# Altium footprint library L-SPE-XAL40xx.PcbLib: 1 footprints
Each footprint in its own frame and in the unit in brackets; x right, y up, seen from the top. Pads: shape width x height; smd on the part's side, far side on the other; paste and mask are expansions set on the pad; w line width, h text height; cw(c..) or ccw(c..) is an arc to the next point about the centre after c.
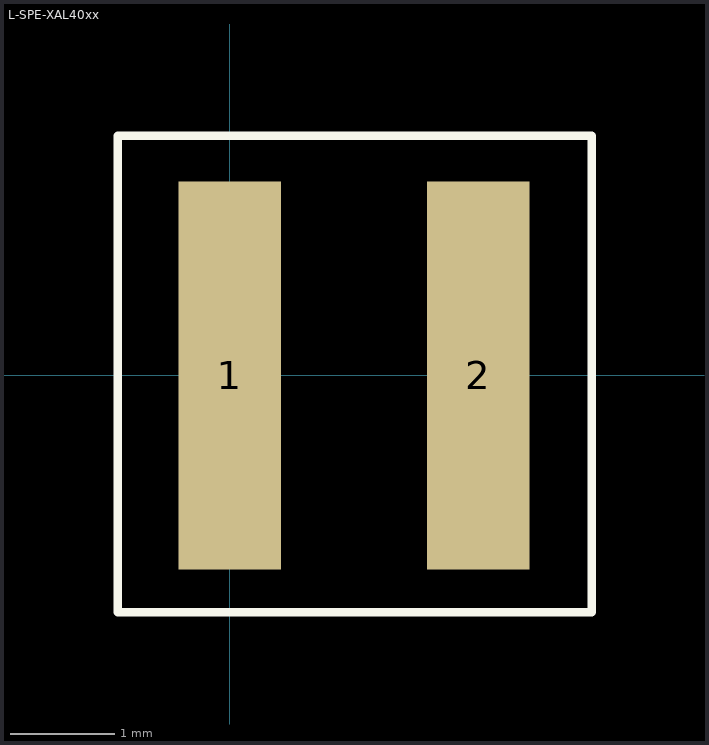
[diagram p0: the footprint, top view; thin cyan lines are the x and y axes]

## L-SPE-XAL40xx [mm]
pads (2):
  rect 0.98x3.7 smd: 1(0,0) 2(2.37,0)
Top Overlay:
  lines w0.08: -1.067,-2.261 -1.067,2.286 3.454,2.286 3.454,-2.261 -1.067,-2.261
3D body: height 2, standoff -0.1, extent -0.956,-2.15 3.344,2.15